# Altium schematic symbol library SCH - DIODES - SCHOTTKY_VS-12CWQ10FNPBF.SCHLIB: 1 symbol
Pins are listed as number, name and electrical type; pins without a type are passive.

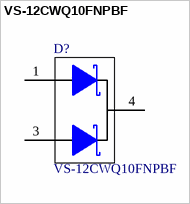
[diagram p0: symbol VS-12CWQ10FNPBF]

## VS-12CWQ10FNPBF
designator D?
Diode, Schottky, 100 V, 6 A, DPAK; Manufacturer: Vishay-Semiconductor; U/M: EA; Vf_V: 0.65; Value: 100V; Value1: 6A; Value2: 0.65V; Io_A: 6; Vr_V: 100; TJmax_C: 150; RJC_CperW: 3; AEC Category: Q101; SymbolVersion: 2008-12-08; PartNumber: VS-12CWQ10FNPBF; PackageReference: DPAK; CompType: Diode; MountType: SMT; Type: Schottky; RoHS: Y; Published: 2008-06-26; Publisher: Texas Instruments; LatestRevisionDate: 2016-04-29; ComponentLink1Description: Datasheet link; ComponentLink1URL: http://www.vishay.com/docs/94135/12cwq10f.pdf; Supplier 1: Digi-Key; Supplier Part Number 1: VS-12CWQ10FNPBF-ND; Supplier 2: Mouser; Supplier Part Number 2: 844-12CWQ10FNPBF; Supplier 3: Farnell; Supplier Part Number 3: 9101152; AEC Qualified: ?
signal-integrity model Diode
footprint DPAK
pins: 1 A, 3 A, 4 K